# Altium footprint library SO_package.PcbLib: 34 footprints (part 1 of 3)
Each footprint in its own frame and in the unit in brackets; x right, y up, seen from the top. Pads: shape width x height; smd on the part's side, far side on the other; paste and mask are expansions set on the pad; w line width, h text height; cw(c..) or ccw(c..) is an arc to the next point about the centre after c.
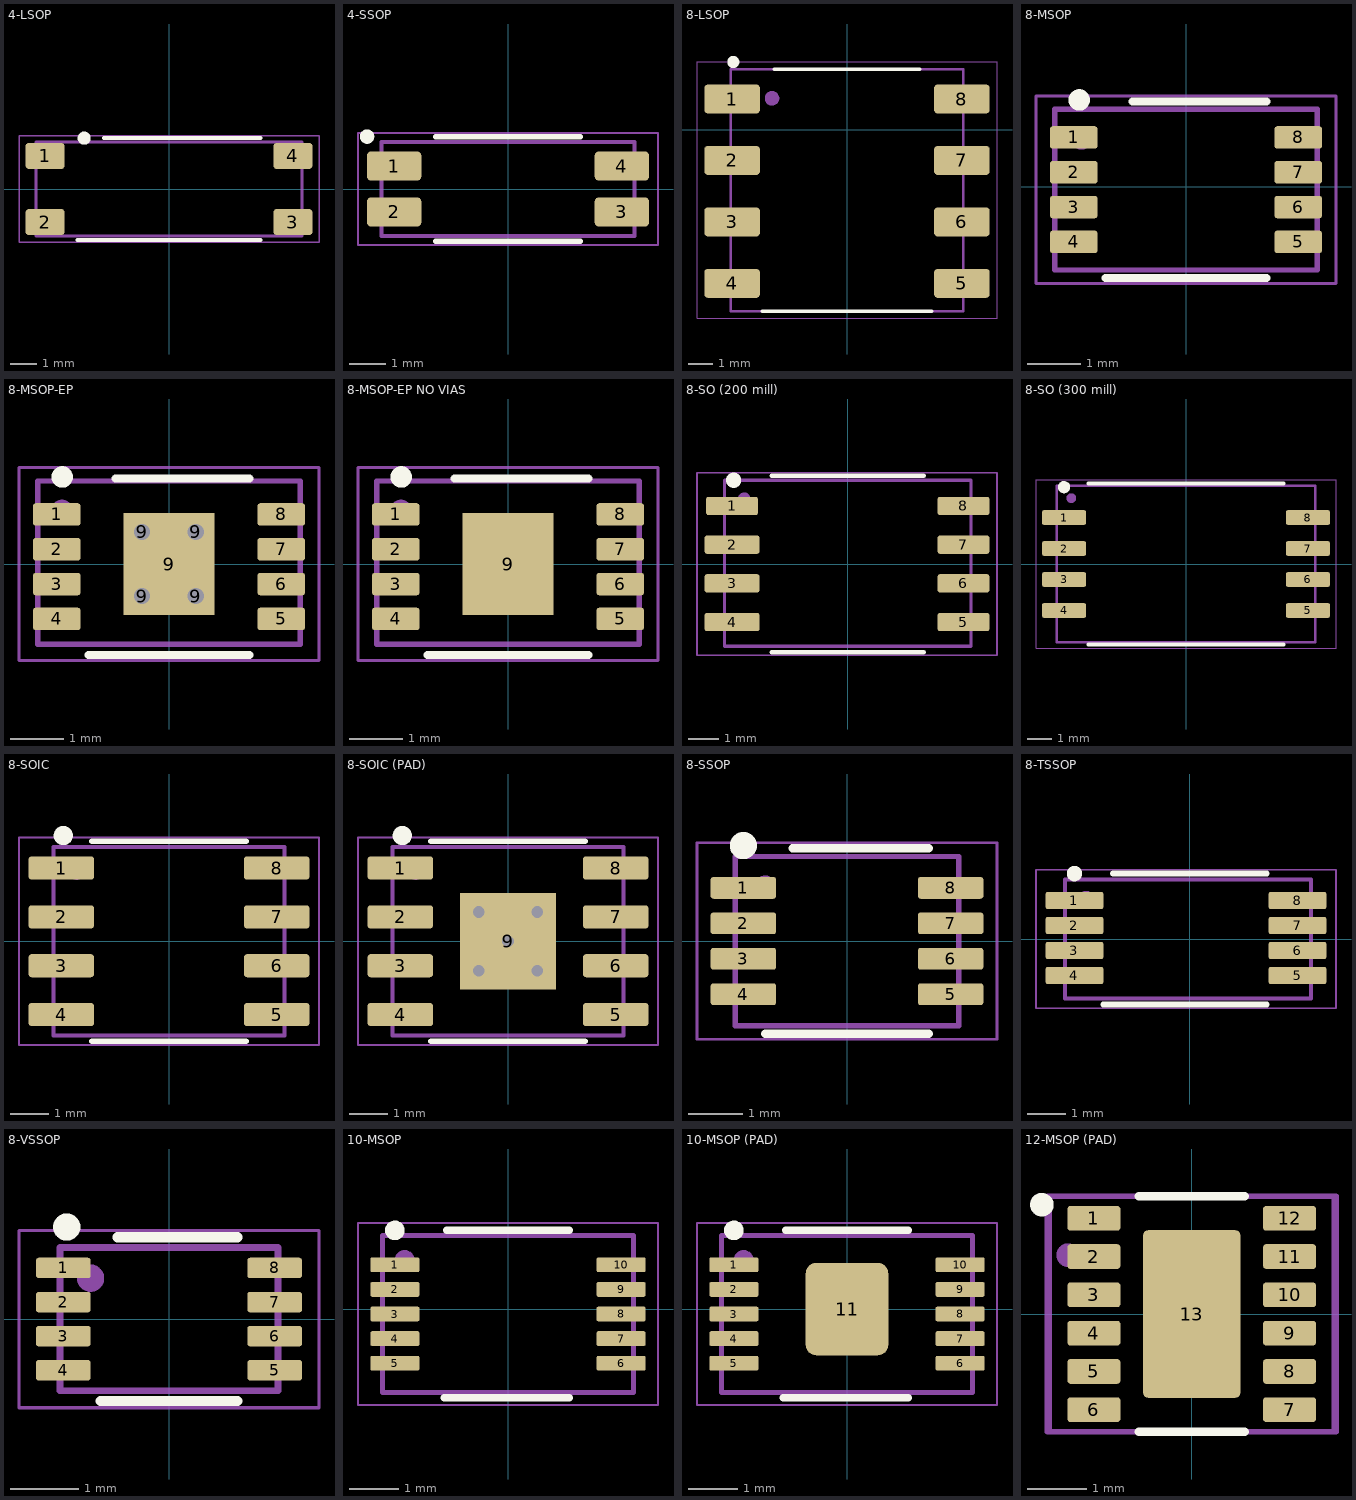
[diagram p0: the footprints below, top view; thin cyan lines are the x and y axes]

## 4-LSOP [mm]
height 2.1
pads (4):
  rrect25% 1.5x1 smd: 1(-4.75,1.27) 2(-4.75,-1.27) 3(4.75,-1.27) 4(4.75,1.27)
Top Overlay:
  circle w0.3: c-3.25,1.95 r0.1
  lines w0.15: -3.5,-1.95 3.5,-1.95 ; -2.5,1.95 3.5,1.95
Top Assembly (Mech13):
  circle w0.2: c-4.5,1.2 r0.1
  lines w0.1: -5.1,-1.8 -5.1,1.8 5.1,1.8 5.1,-1.8 -5.1,-1.8
  text ".Designator" at -4.998,-0.333 h1
Top Courtyard:
  lines w0.05: -5.75,-2.05 5.75,-2.05 5.75,2.05 -5.75,2.05 -5.75,-2.05
3D body "opto LSOP-4 black.stp": height 2.1, standoff 0, extent -5.1,-1.8 5.1,1.8

## 4-SSOP [mm]
height 1
pads (4):
  rrect25% 1.5x0.8 smd: 1(-3.15,0.635) 2(-3.15,-0.635) 3(3.15,-0.635) 4(3.15,0.635)
Top Overlay:
  circle w0.2: c-3.9,1.45 r0.1
  lines w0.15: -2,-1.45 2,-1.45 ; -2,1.45 2,1.45
Top Assembly (Mech13):
  circle w0.2: c-3,0.8 r0.1
  lines w0.1: -3.5,-1.3 3.5,-1.3 3.5,1.3 -3.5,1.3 -3.5,-1.3
  text ".Designator" at -4.998,-0.333 h1
Top Courtyard:
  lines w0.05: -4.15,-1.55 -4.15,1.55 4.15,1.55 4.15,-1.55 -4.15,-1.55
3D body "User Library-SSOP-4.STEP": height 2, standoff -0.02, extent -3.5,-1.35 3.5,1.35

## 8-LSOP [mm]
height 2.1
pads (8):
  rrect25% 2.3x1.2 smd: 1(-4.75,1.27) 2(-4.75,-1.27) 3(-4.75,-3.81) 4(-4.75,-6.35) 5(4.75,-6.35) 6(4.75,-3.81) 7(4.75,-1.27) 8(4.75,1.27)
Top Overlay:
  circle w0.3: c-4.7,2.8 r0.1
  lines w0.15: -3.5,-7.5 3.5,-7.5 ; -3,2.5 3,2.5
Top Assembly (Mech13):
  circle w0.4: c-3.1,1.3 r0.1
  lines w0.1: -4.8,-7.5 -4.8,2.5 4.8,2.5 4.8,-7.5 -4.8,-7.5
  text ".Designator" at -4.998,-0.333 h1
Top Courtyard:
  lines w0.05: -6.2,-7.8 6.2,-7.8 6.2,2.8 -6.2,2.8 -6.2,-7.8
3D body "User Library-SOP8-SOP-8-SOP8W-SOP8L.step": height 4, standoff 0, extent -4.81,-7.5 4.81,2.5

## 8-MSOP [mm]
pads (8):
  rrect25% 0.89x0.42 smd: 1(-2.095,0.925) 2(-2.095,0.275) 3(-2.095,-0.375) 4(-2.095,-1.025) 5(2.095,-1.025) 6(2.095,-0.375) 7(2.095,0.275) 8(2.095,0.925)
Top Overlay:
  circle w0.2: c-1.995,1.625 r0.1
  lines w0.15: -1.5,-1.7 1.5,-1.7 ; -1,1.6 1.5,1.6
Top Assembly (Mech13):
  circle w0.2: c-1.95,0.9 r0.1
  lines w0.1: -2.45,-1.55 2.45,-1.55 2.45,1.45 -2.45,1.45 -2.45,-1.55
  text ".Designator" at -4.998,-0.333 h1
Top Courtyard:
  lines w0.05: -2.8,-1.8 -2.8,1.7 2.8,1.7 2.8,-1.8 0.48,-1.8 -2.8,-1.8
3D body "User Library-msop-8.STEP": height 1.15, standoff 0, extent -2.445,-1.55 2.455,1.45

## 8-MSOP-EP [mm]
pads (13):
  rrect25% 0.89x0.42 smd: 1(-2.095,0.925) 2(-2.095,0.275) 3(-2.095,-0.375) 4(-2.095,-1.025) 5(2.095,-1.025) 6(2.095,-0.375) 7(2.095,0.275) 8(2.095,0.925)
  round 0.6 hole 0.3: 9(-0.5,-0.6) 9(-0.5,0.6) 9(0.5,-0.6) 9(0.5,0.6)
  rect 1.7x1.9 smd: 9(0,0)
Top Overlay:
  circle w0.2: c-1.995,1.625 r0.1
  lines w0.15: -1.5,-1.7 1.5,-1.7 ; -1,1.6 1.5,1.6
Top Assembly (Mech13):
  circle w0.2: c-2,1 r0.1
  lines w0.1: -2.45,-1.5 -2.45,1.55 2.45,1.55 2.45,-1.5 -2.45,-1.5
  text ".Designator" at -4.998,-0.333 h1
Top Courtyard:
  lines w0.05: -2.8,-1.8 -2.8,1.8 2.8,1.8 2.8,-1.8 -2.8,-1.8
3D body "User Library-msop-8.STEP": height 1.15, standoff 0, extent -2.45,-1.55 2.45,1.45

## 8-MSOP-EP NO VIAS [mm]
pads (9):
  rrect25% 0.89x0.42 smd: 1(-2.095,0.925) 2(-2.095,0.275) 3(-2.095,-0.375) 4(-2.095,-1.025) 5(2.095,-1.025) 6(2.095,-0.375) 7(2.095,0.275) 8(2.095,0.925)
  rect 1.7x1.9 smd: 9(0,0)
Top Overlay:
  circle w0.2: c-1.995,1.625 r0.1
  lines w0.15: -1.5,-1.7 1.5,-1.7 ; -1,1.6 1.5,1.6
Top Assembly (Mech13):
  circle w0.2: c-2,1 r0.1
  lines w0.1: -2.45,-1.5 2.45,-1.5 2.45,1.55 -2.45,1.55 -2.45,-1.5
  text ".Designator" at -4.998,-0.333 h1
Top Courtyard:
  lines w0.05: -2.8,-1.8 2.8,-1.8 2.8,1.8 -2.8,1.8 -2.8,-1.8
3D body "User Library-msop-8.STEP": height 1.15, standoff 0, extent -2.45,-1.55 2.45,1.45

## 8-SO (200 mill) [mm]
pads (8):
  rrect25% 1.7x0.6 smd: 1(-3.8,1.905) 5(3.8,-1.905) 6(3.8,-0.635) 7(3.8,0.635) 8(3.8,1.905)
  rrect25% 1.8x0.6 smd: 2(-3.8,0.635) 3(-3.8,-0.635) 4(-3.8,-1.905)
Top Overlay:
  circle w0.25: c-3.75,2.75 r0.125
  lines w0.15: -2.5,-2.9 2.5,-2.9 ; -2.5,2.9 2.5,2.9
Top Assembly (Mech13):
  circle w0.2: c-3.4,2.15 r0.1
  lines w0.1: -4.05,-2.7 -4.05,2.75 4.05,2.75 4.05,-2.7 -4.05,-2.7
  text ".Designator" at -4.998,-0.333 h1
Top Courtyard:
  lines w0.05: -4.95,-3 4.9,-3 4.9,3 -4.95,3 -4.95,-3
3D body "User Library-SOIC8_Wide_5mmx5mm.step": height 1.75, standoff -0.01, extent -4.052,-2.73 4.05,2.73

## 8-SO (300 mill) [mm]
pads (8):
  rrect25% 1.8x0.6 smd: 1(-5,1.905) 2(-5,0.635) 3(-5,-0.635) 4(-5,-1.905) 5(5,-1.905) 6(5,-0.635) 7(5,0.635) 8(5,1.905)
Top Overlay:
  circle w0.25: c-5,3.15 r0.125
  lines w0.15: -4,-3.3 4,-3.3 ; -4,3.3 4,3.3
Top Assembly (Mech13):
  circle w0.2: c-4.7,2.7 r0.1
  lines w0.1: -5.3,-3.2 -5.3,3.2 5.3,3.2 5.3,-3.2 -5.3,-3.2
  text ".Designator" at -4.998,-0.333 h1
Top Courtyard:
  lines w0.05: -6.15,-3.45 6.15,-3.45 6.15,3.45 -6.15,3.45 -6.15,-3.45
3D body "1EDC60I12AHXUMA1.STEP": height 1.7, standoff 0, extent -5.321,-3.18 5.321,3.17

## 8-SOIC [mm]
pads (8):
  rrect25% 1.7x0.6 smd: 1(-2.8,1.905) 2(-2.8,0.635) 3(-2.8,-0.635) 4(-2.8,-1.905) 5(2.8,-1.905) 6(2.8,-0.635) 7(2.8,0.635) 8(2.8,1.905)
Top Overlay:
  circle w0.25: c-2.75,2.75 r0.125
  lines w0.15: -2,-2.6 2,-2.6 ; -2,2.6 2,2.6
Top Assembly (Mech13):
  circle w0.2: c-2.4,1.8 r0.1
  lines w0.1: -3,-2.45 -3,2.45 3,2.45 3,-2.45 -3,-2.45
  text ".Designator" at -4.998,-0.333 h1
Top Courtyard:
  lines w0.05: -3.9,-2.7 -3.9,2.7 3.9,2.7 3.9,-2.7 -3.9,-2.7
3D body "User Library-SOIC-8-1.STEP": height 1.75, standoff 0, extent -3,-2.45 3,2.45

## 8-SOIC (PAD) [mm]
pads (9):
  rrect25% 1.7x0.6 smd: 1(-2.8,1.905) 2(-2.8,0.635) 3(-2.8,-0.635) 4(-2.8,-1.905) 5(2.8,-1.905) 6(2.8,-0.635) 7(2.8,0.635) 8(2.8,1.905)
  rect 2.5x2.5 smd: 9(0,0)
via -0.762,0.762 diameter 0.6 hole 0.3
via 0,0 diameter 0.6 hole 0.3
via 0.762,0.762 diameter 0.6 hole 0.3
via -0.762,-0.762 diameter 0.6 hole 0.3
via 0.762,-0.762 diameter 0.6 hole 0.3
Top Overlay:
  circle w0.25: c-2.75,2.75 r0.125
  lines w0.15: -2,-2.6 2,-2.6 ; -2,2.6 2,2.6
Top Assembly (Mech13):
  circle w0.2: c-2.4,1.8 r0.1
  lines w0.1: -3,-2.45 -3,2.45 3,2.45 3,-2.45 -3,-2.45
  text ".Designator" at -4.998,-0.333 h1
Top Courtyard:
  lines w0.05: -3.9,-2.7 3.9,-2.7 3.9,2.7 -3.9,2.7 -3.9,-2.7
3D body "User Library-SOIC-8-1.STEP": height 1.75, standoff 0, extent -3,-2.45 3,2.45

## 8-SSOP [mm] "VSSOP, 8-Leads, Body 3,10x3,10mm, Pitch 0,65mm"
height 1.1
pads (8):
  rrect25% 1.2x0.4 smd: 1(-1.9,0.975) 2(-1.9,0.325) 3(-1.9,-0.325) 4(-1.9,-0.975) 5(1.9,-0.975) 6(1.9,-0.325) 7(1.9,0.325) 8(1.9,0.975)
Top Overlay:
  circle w0.25: c-1.9,1.75 r0.125
  lines w0.15: -1.5,-1.7 1.5,-1.7 ; -1,1.7 1.5,1.7
Top Assembly (Mech13):
  circle w0.2: c-1.5,1 r0.1
  lines w0.1: -2.05,-1.55 -2.05,1.55 2.05,1.55 2.05,-1.55 -2.05,-1.55
  text ".Designator" at -4.998,-0.333 h1
Top Courtyard:
  lines w0.05: -2.75,-1.8 -2.75,1.8 2.75,1.8 2.75,-1.8 -2.75,-1.8
3D body "SW3dPS-TSSOP8-1.STEP": height 1.1, standoff 0, extent -2.05,-1.55 2.05,1.55

## 8-TSSOP [mm]
height 1
pads (8):
  rrect25% 1.5x0.45 smd: 1(-3,1) 2(-3,0.35) 3(-3,-0.3) 4(-3,-0.95) 5(2.8,-0.95) 6(2.8,-0.3) 7(2.8,0.35) 8(2.8,1)
Top Overlay:
  circle w0.2: c-3,1.7 r0.1
  lines w0.15: -2.25,-1.7 2,-1.7 ; -2,1.7 2,1.7
Top Assembly (Mech13):
  circle w0.2: c-2.7,1.05 r0.1
  lines w0.1: -3.25,-1.55 3.15,-1.55 3.15,1.55 -3.25,1.55 -3.25,-1.55
  text ".Designator" at -4.998,-0.333 h1
Top Courtyard:
  lines w0.05: -4,-1.8 -4,1.8 3.8,1.8 3.8,-1.8 -4,-1.8
3D body "SW3dPS-TSSOP8.STEP": height 1.15, standoff -0.05, extent -3.25,-1.55 3.15,1.55

## 8-VSSOP [mm]
height 0.9
pads (8):
  rrect25% 0.8x0.3 smd: 1(-1.55,0.75) 2(-1.55,0.25) 3(-1.55,-0.25) 4(-1.55,-0.75) 5(1.55,-0.75) 6(1.55,-0.25) 7(1.55,0.25) 8(1.55,0.75)
Top Overlay:
  circle w0.2: c-1.5,1.35 r0.1
  lines w0.15: -1,-1.2 1,-1.2 ; -0.75,1.2 1,1.2
Top Assembly (Mech13):
  circle w0.2: c-1.15,0.6 r0.1
  lines w0.1: -1.6,-1.05 -1.6,1.05 1.6,1.05 1.6,-1.05 -1.6,-1.05
  text ".Designator" at -4.998,-0.333 h1
Top Courtyard:
  lines w0.05: -2.2,-1.3 -2.2,-0.675 -2.2,0.775 -2.2,1.3 2.2,1.3 2.2,-1.3 -2.2,-1.3
3D body "User Library-SOP50P310X90-8N[8US8_VSSOP_DCU_MO-187CA].step": height 0.9, standoff 0, extent -1.6,-1.05 1.6,1.05

## 10-MSOP [mm]
height 1.1
pads (10):
  rrect25% 1x0.3 smd: 1(-2.3,0.9) 2(-2.3,0.4) 3(-2.3,-0.1) 4(-2.3,-0.6) 5(-2.3,-1.1) 6(2.3,-1.1) 7(2.3,-0.6) 8(2.3,-0.1) 9(2.3,0.4) 10(2.3,0.9)
Top Overlay:
  circle w0.2: c-2.3,1.6 r0.1
  lines w0.15: -1.3,-1.8 1.25,-1.8 ; -1.25,1.6 1.25,1.6
Top Assembly (Mech13):
  circle w0.2: c-2.1,1 r0.1
  lines w0.1: -2.55,-1.7 -2.55,1.5 2.55,1.5 2.55,-1.7 -2.55,-1.7
  text ".Designator" at -4.998,-0.333 h1
Top Courtyard:
  lines w0.05: -3.05,-1.95 -3.05,1.75 3.05,1.75 3.05,-1.95 -3.05,-1.95
3D body "User Library-MSOP10-1.step": height 1.09, standoff 0, extent -2.575,-1.7 2.575,1.5

## 10-MSOP (PAD) [mm]
height 1.1
pads (11):
  rrect25% 1x0.3 smd: 1(-2.3,0.9) 2(-2.3,0.4) 3(-2.3,-0.1) 4(-2.3,-0.6) 5(-2.3,-1.1) 6(2.3,-1.1) 7(2.3,-0.6) 8(2.3,-0.1) 9(2.3,0.4) 10(2.3,0.9)
  rrect25% 1.68x1.88 smd: 11(0,0)
Top Overlay:
  circle w0.2: c-2.3,1.6 r0.1
  lines w0.15: -1.3,-1.8 1.25,-1.8 ; -1.25,1.6 1.25,1.6
Top Assembly (Mech13):
  circle w0.2: c-2.1,1 r0.1
  lines w0.1: -2.55,-1.7 2.55,-1.7 2.55,1.5 -2.55,1.5 -2.55,-1.7
  text ".Designator" at -4.998,-0.333 h1
Top Courtyard:
  lines w0.05: -3.05,-1.95 3.05,-1.95 3.05,1.75 -3.05,1.75 -3.05,-1.95
3D body "User Library-MSOP10-1.step": height 1.09, standoff 0, extent -2.575,-1.7 2.575,1.5

## 12-MSOP (PAD) [mm]
height 1.1
pads (13):
  rrect25% 0.9x0.42 smd: 1(-1.662,1.625) 2(-1.662,0.975) 3(-1.662,0.325) 4(-1.662,-0.325) 5(-1.662,-0.975) 6(-1.662,-1.625) 7(1.662,-1.625) 8(1.662,-0.975) 9(1.662,-0.325) 10(1.662,0.325) 11(1.662,0.975) 12(1.662,1.625)
  rrect10% 1.651x2.845 smd: 13(0,0)
Top Overlay:
  circle w0.2: c-2.545,1.856 r0.1
  lines w0.15: -0.9,-2 0.9,-2 ; -0.9,2 0.9,2
Top Assembly (Mech13):
  circle w0.2: c-2.1,1 r0.1
  lines w0.1: -2.45,-2 2.45,-2 2.45,2 -2.45,2 -2.45,-2
  text ".Designator" at -4.998,-0.333 h1
Top Courtyard:
  lines w0.05: -2.4,-2.011 2.4,-2.011 2.4,2.018 -2.4,2.018 -2.4,-2.011